# EAGLE library part LM555CN/NOPB (library LM555CN_NOPB)
Check prices <https://pricing.snapeda.com/parts/LM555CN/NOPB/Texas%20Instruments/view-part?ref=eda>
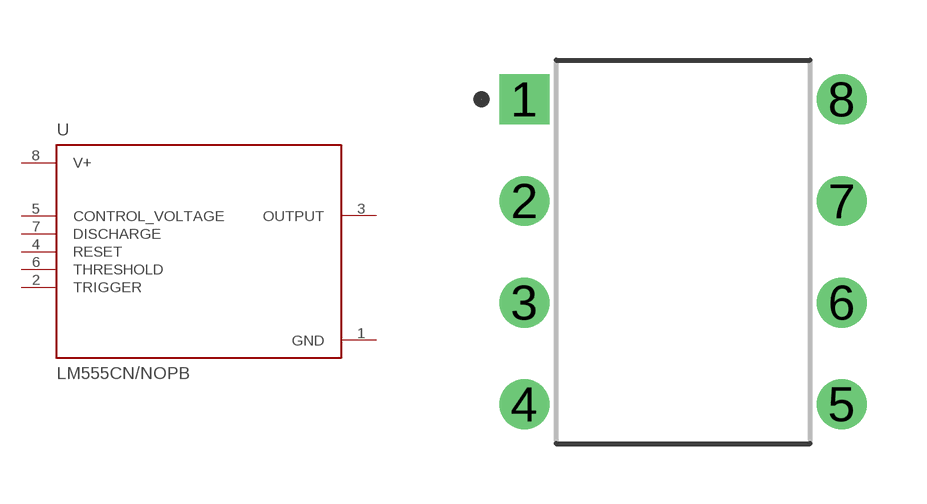
[diagram p0: symbol with the pads of DIP794W45P254L959H508Q8; footprint DIP794W45P254L959H508Q8]

Designator prefix U

## LM555CN/NOPB (Availability: Good; Description: Highly Stable 555 Timer 8-PDIP 0 to 70; MF: Texas Instruments; MP: LM555CN/NOPB; Package: PDIP-8 Texas; Price: None; Purchase-URL: https://pricing.snapeda.com/search/part/LM555CN/NOPB/?ref=eda)  [DIP794W45P254L959H508Q8]
1  GND  pwr
2  TRIGGER  in
3  OUTPUT  out
4  RESET  in
5  CONTROL_VOLTAGE  in
6  THRESHOLD  in
7  DISCHARGE  in
8  V+  pwr

## Footprint DIP794W45P254L959H508Q8 (pad centres in mm)
drill 0.74 pad 1.13 square: 1 -3.97,3.81
drill 0.74 pad 1.13: 2 -3.97,1.27; 3 -3.97,-1.27; 4 -3.97,-3.81; 5 3.97,-3.81; 6 3.97,-1.27; 7 3.97,1.27; 8 3.97,3.81